# Altium schematic symbol library SCH - MCU - ATSAM - MICROCHIP SAMD51J18A-MF QFN64.SchLib: 1 symbol
Pins are listed as number, name and electrical type; pins without a type are passive.

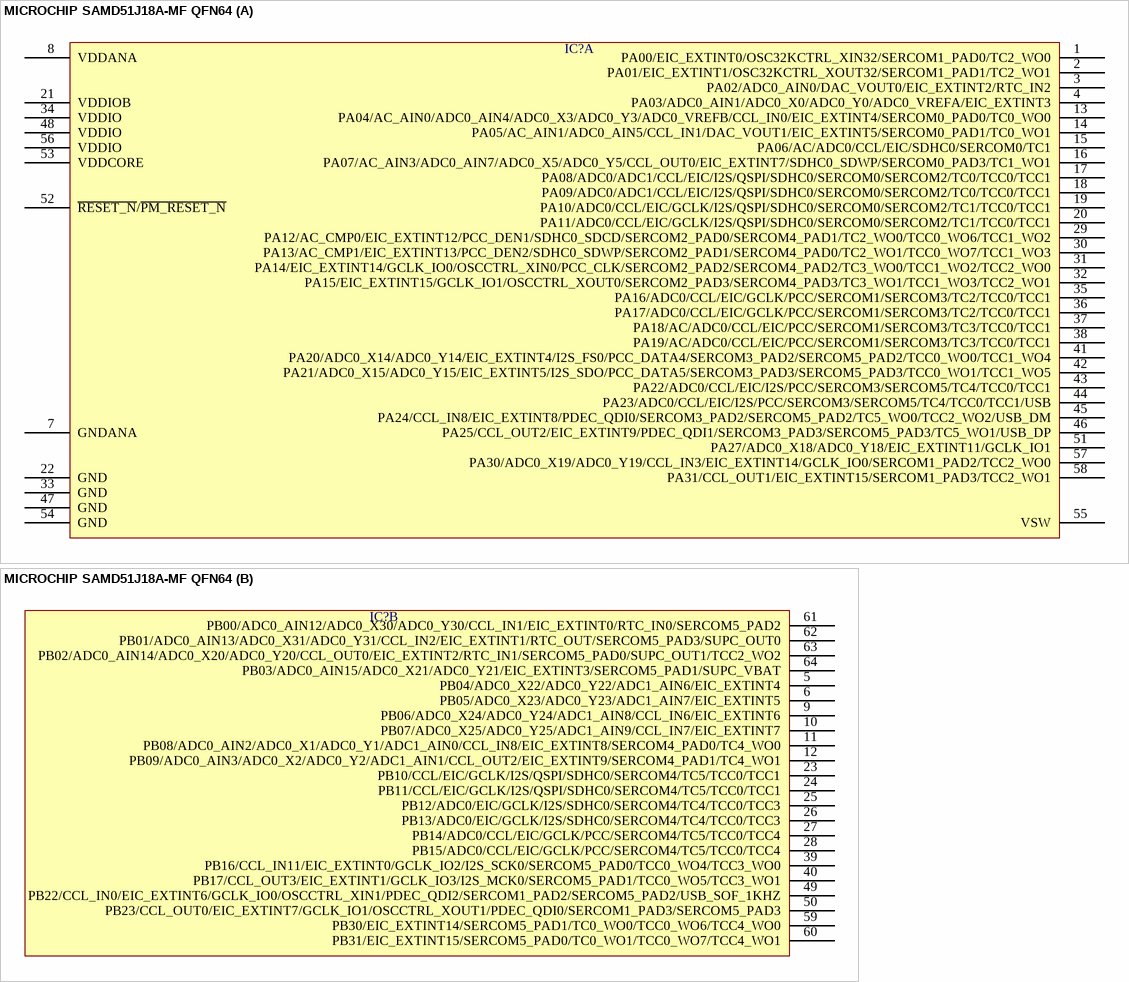
[diagram p0: symbol MICROCHIP SAMD51J18A-MF QFN64]

## MICROCHIP SAMD51J18A-MF QFN64
designator IC?  (value not drawn)
part A pins: 1 PA00/EIC_EXTINT0/OSC32KCTRL_XIN32/SERCOM1_PAD0/TC2_WO0, 2 PA01/EIC_EXTINT1/OSC32KCTRL_XOUT32/SERCOM1_PAD1/TC2_WO1, 3 PA02/ADC0_AIN0/DAC_VOUT0/EIC_EXTINT2/RTC_IN2, 4 PA03/ADC0_AIN1/ADC0_X0/ADC0_Y0/ADC0_VREFA/EIC_EXTINT3, 7 GNDANA, 8 VDDANA, 13 PA04/AC_AIN0/ADC0_AIN4/ADC0_X3/ADC0_Y3/ADC0_VREFB/CCL_IN0/EIC_EXTINT4/SERCOM0_PAD0/TC0_WO0, 14 PA05/AC_AIN1/ADC0_AIN5/CCL_IN1/DAC_VOUT1/EIC_EXTINT5/SERCOM0_PAD1/TC0_WO1, 15 PA06/AC/ADC0/CCL/EIC/SDHC0/SERCOM0/TC1, 16 PA07/AC_AIN3/ADC0_AIN7/ADC0_X5/ADC0_Y5/CCL_OUT0/EIC_EXTINT7/SDHC0_SDWP/SERCOM0_PAD3/TC1_WO1, 17 PA08/ADC0/ADC1/CCL/EIC/I2S/QSPI/SDHC0/SERCOM0/SERCOM2/TC0/TCC0/TCC1, 18 PA09/ADC0/ADC1/CCL/EIC/I2S/QSPI/SDHC0/SERCOM0/SERCOM2/TC0/TCC0/TCC1, 19 PA10/ADC0/CCL/EIC/GCLK/I2S/QSPI/SDHC0/SERCOM0/SERCOM2/TC1/TCC0/TCC1, 20 PA11/ADC0/CCL/EIC/GCLK/I2S/QSPI/SDHC0/SERCOM0/SERCOM2/TC1/TCC0/TCC1, 21 VDDIOB, 22 GND, 29 PA12/AC_CMP0/EIC_EXTINT12/PCC_DEN1/SDHC0_SDCD/SERCOM2_PAD0/SERCOM4_PAD1/TC2_WO0/TCC0_WO6/TCC1_WO2, 30 PA13/AC_CMP1/EIC_EXTINT13/PCC_DEN2/SDHC0_SDWP/SERCOM2_PAD1/SERCOM4_PAD0/TC2_WO1/TCC0_WO7/TCC1_WO3, 31 PA14/EIC_EXTINT14/GCLK_IO0/OSCCTRL_XIN0/PCC_CLK/SERCOM2_PAD2/SERCOM4_PAD2/TC3_WO0/TCC1_WO2/TCC2_WO0, 32 PA15/EIC_EXTINT15/GCLK_IO1/OSCCTRL_XOUT0/SERCOM2_PAD3/SERCOM4_PAD3/TC3_WO1/TCC1_WO3/TCC2_WO1, 33 GND, 34 VDDIO, 35 PA16/ADC0/CCL/EIC/GCLK/PCC/SERCOM1/SERCOM3/TC2/TCC0/TCC1, 36 PA17/ADC0/CCL/EIC/GCLK/PCC/SERCOM1/SERCOM3/TC2/TCC0/TCC1, 37 PA18/AC/ADC0/CCL/EIC/PCC/SERCOM1/SERCOM3/TC3/TCC0/TCC1, 38 PA19/AC/ADC0/CCL/EIC/PCC/SERCOM1/SERCOM3/TC3/TCC0/TCC1, 41 PA20/ADC0_X14/ADC0_Y14/EIC_EXTINT4/I2S_FS0/PCC_DATA4/SERCOM3_PAD2/SERCOM5_PAD2/TCC0_WO0/TCC1_WO4, 42 PA21/ADC0_X15/ADC0_Y15/EIC_EXTINT5/I2S_SDO/PCC_DATA5/SERCOM3_PAD3/SERCOM5_PAD3/TCC0_WO1/TCC1_WO5, 43 PA22/ADC0/CCL/EIC/I2S/PCC/SERCOM3/SERCOM5/TC4/TCC0/TCC1, 44 PA23/ADC0/CCL/EIC/I2S/PCC/SERCOM3/SERCOM5/TC4/TCC0/TCC1/USB, 45 PA24/CCL_IN8/EIC_EXTINT8/PDEC_QDI0/SERCOM3_PAD2/SERCOM5_PAD2/TC5_WO0/TCC2_WO2/USB_DM, 46 PA25/CCL_OUT2/EIC_EXTINT9/PDEC_QDI1/SERCOM3_PAD3/SERCOM5_PAD3/TC5_WO1/USB_DP, 47 GND, 48 VDDIO, 51 PA27/ADC0_X18/ADC0_Y18/EIC_EXTINT11/GCLK_IO1, 52 ~{RESET_N}/~{PM_RESET_N}, 53 VDDCORE, 54 GND, 55 VSW, 56 VDDIO, 57 PA30/ADC0_X19/ADC0_Y19/CCL_IN3/EIC_EXTINT14/GCLK_IO0/SERCOM1_PAD2/TCC2_WO0, 58 PA31/CCL_OUT1/EIC_EXTINT15/SERCOM1_PAD3/TCC2_WO1
part B pins: 5 PB04/ADC0_X22/ADC0_Y22/ADC1_AIN6/EIC_EXTINT4, 6 PB05/ADC0_X23/ADC0_Y23/ADC1_AIN7/EIC_EXTINT5, 9 PB06/ADC0_X24/ADC0_Y24/ADC1_AIN8/CCL_IN6/EIC_EXTINT6, 10 PB07/ADC0_X25/ADC0_Y25/ADC1_AIN9/CCL_IN7/EIC_EXTINT7, 11 PB08/ADC0_AIN2/ADC0_X1/ADC0_Y1/ADC1_AIN0/CCL_IN8/EIC_EXTINT8/SERCOM4_PAD0/TC4_WO0, 12 PB09/ADC0_AIN3/ADC0_X2/ADC0_Y2/ADC1_AIN1/CCL_OUT2/EIC_EXTINT9/SERCOM4_PAD1/TC4_WO1, 23 PB10/CCL/EIC/GCLK/I2S/QSPI/SDHC0/SERCOM4/TC5/TCC0/TCC1, 24 PB11/CCL/EIC/GCLK/I2S/QSPI/SDHC0/SERCOM4/TC5/TCC0/TCC1, 25 PB12/ADC0/EIC/GCLK/I2S/SDHC0/SERCOM4/TC4/TCC0/TCC3, 26 PB13/ADC0/EIC/GCLK/I2S/SDHC0/SERCOM4/TC4/TCC0/TCC3, 27 PB14/ADC0/CCL/EIC/GCLK/PCC/SERCOM4/TC5/TCC0/TCC4, 28 PB15/ADC0/CCL/EIC/GCLK/PCC/SERCOM4/TC5/TCC0/TCC4, 39 PB16/CCL_IN11/EIC_EXTINT0/GCLK_IO2/I2S_SCK0/SERCOM5_PAD0/TCC0_WO4/TCC3_WO0, 40 PB17/CCL_OUT3/EIC_EXTINT1/GCLK_IO3/I2S_MCK0/SERCOM5_PAD1/TCC0_WO5/TCC3_WO1, 49 PB22/CCL_IN0/EIC_EXTINT6/GCLK_IO0/OSCCTRL_XIN1/PDEC_QDI2/SERCOM1_PAD2/SERCOM5_PAD2/USB_SOF_1KHZ, 50 PB23/CCL_OUT0/EIC_EXTINT7/GCLK_IO1/OSCCTRL_XOUT1/PDEC_QDI0/SERCOM1_PAD3/SERCOM5_PAD3, 59 PB30/EIC_EXTINT14/SERCOM5_PAD1/TC0_WO0/TCC0_WO6/TCC4_WO0, 60 PB31/EIC_EXTINT15/SERCOM5_PAD0/TC0_WO1/TCC0_WO7/TCC4_WO1, 61 PB00/ADC0_AIN12/ADC0_X30/ADC0_Y30/CCL_IN1/EIC_EXTINT0/RTC_IN0/SERCOM5_PAD2, 62 PB01/ADC0_AIN13/ADC0_X31/ADC0_Y31/CCL_IN2/EIC_EXTINT1/RTC_OUT/SERCOM5_PAD3/SUPC_OUT0, 63 PB02/ADC0_AIN14/ADC0_X20/ADC0_Y20/CCL_OUT0/EIC_EXTINT2/RTC_IN1/SERCOM5_PAD0/SUPC_OUT1/TCC2_WO2, 64 PB03/ADC0_AIN15/ADC0_X21/ADC0_Y21/EIC_EXTINT3/SERCOM5_PAD1/SUPC_VBAT